# EAGLE library part ICL7660SIPAZ (library Intersil_By_element14_Batch_1)
Super Voltage Converter
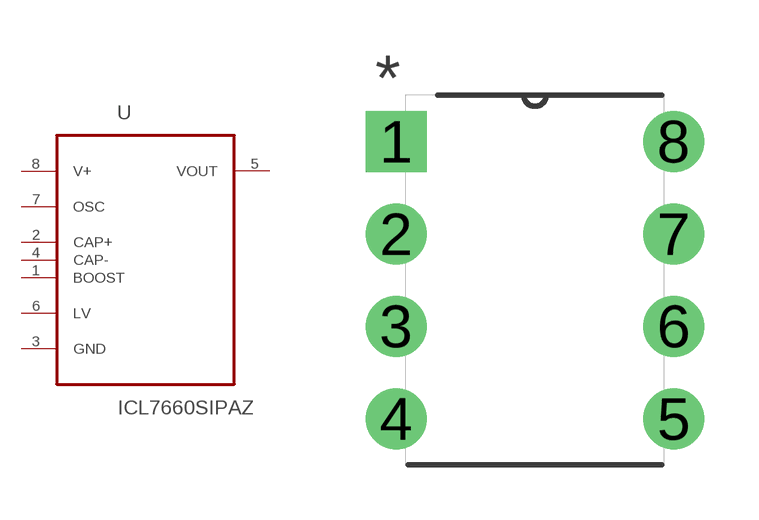
[diagram p190: symbol with the pads of DIP254P762X533-8; footprint DIP254P762X533-8]

Designator prefix U

## ICL7660SIPAZ (MPN: ICL7660SIPAZ; OC_FARNELL: 1562016; OC_NEWARK: 57K3891; PACKAGE: PDIP-8; SUPPLIER: INTERSIL)  [DIP254P762X533-8]
1  BOOST  in
2  CAP+  in
3  GND  pas
4  CAP-  in
5  VOUT  out
6  LV  pas
7  OSC  in
8  V+  pwr

## Footprint DIP254P762X533-8 (pad centres in mm)
drill 1.118 square: 1 -7.62,7.62
drill 1.118: 2 -7.62,5.08; 3 -7.62,2.54; 4 -7.62,0; 5 0,0; 6 0,2.54; 7 0,5.08; 8 0,7.62